# EAGLE library part NHD-C0216CZ-FSW-FBW-3V3 (library display-lcd)
COG Liquid Crystal Display Module
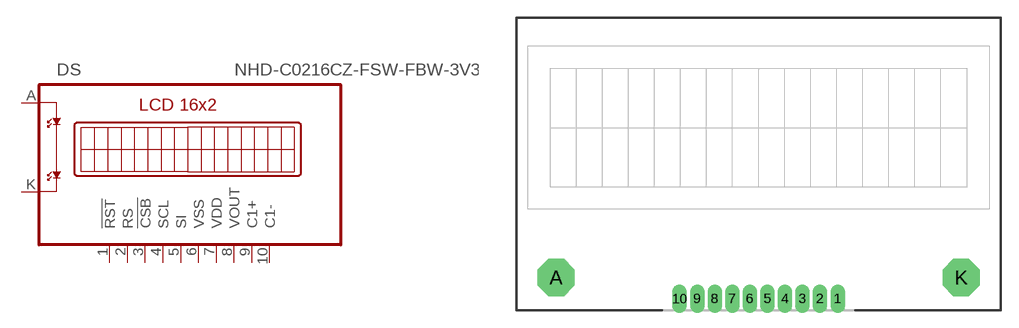
[diagram p18: symbol with the pads of NHD-C0216CZ-FSW-FBW-3V3; footprint NHD-C0216CZ-FSW-FBW-3V3]

Designator prefix DS

## NHD-C0216CZ-FSW-FBW-3V3  [NHD-C0216CZ-FSW-FBW-3V3]
1  !RST!  in
2  RS  in
3  !CSB!  in
4  SCL
5  SI
6  VSS  pwr
7  VDD  pwr
8  VOUT  out
9  C1+  pas
10  C1-  pas
A  A  pas
K  K  pas

## Footprint NHD-C0216CZ-FSW-FBW-3V3 (pad centres in mm)
COG LCD DISPLAY Newhaven Display
drill 0.711 long: 1 6.75,0; 2 5.25,0; 3 3.75,0; 4 2.25,0; 5 0.75,0; 6 -0.75,0; 7 -2.25,0; 8 -3.75,0; 9 -5.25,0; 10 -6.75,0
drill 1.676 pad 3.175 octagon: A -17.3,1.8; K 17.3,1.8